# EAGLE library part SALEAE_HDR (library P442)
Header for Saleae Logic Analyzer
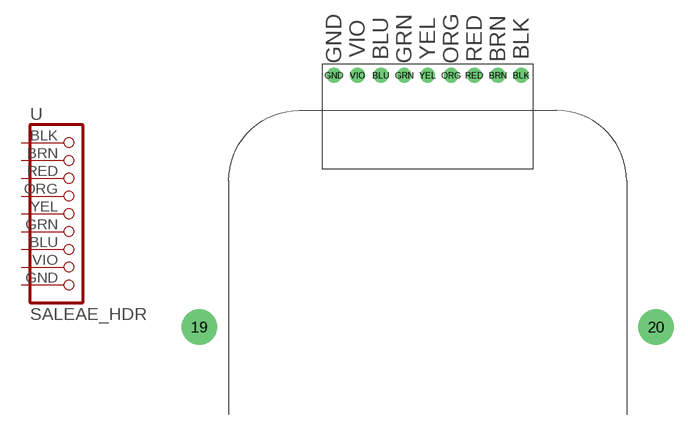
[diagram p3: symbol with the pads of SALEAE_HDR; footprint SALEAE_HDR]

Designator prefix -

## SALEAE_HDR  [SALEAE_HDR]
BLK  BLK  pas
BLU  BLU  pas
BRN  BRN  pas
GND  GND  pas
GRN  GRN  pas
ORG  ORG  pas
RED  RED  pas
VIO  VIO  pas
YEL  YEL  pas

## Footprint SALEAE_HDR (pad centres in mm)
drill 2.845: 19 -24.765,-28.575; 20 24.765,-28.575
drill 1.067: BLK 10.16,-1.27; BLU -5.08,-1.27; BRN 7.62,-1.27; GND -10.16,-1.27; GRN -2.54,-1.27; ORG 2.54,-1.27; RED 5.08,-1.27; VIO -7.62,-1.27; YEL 0,-1.27